# Altium schematic symbol library Connector Symbols.SchLib: 86 symbols
Pins are listed as number, name and electrical type; pins without a type are passive.

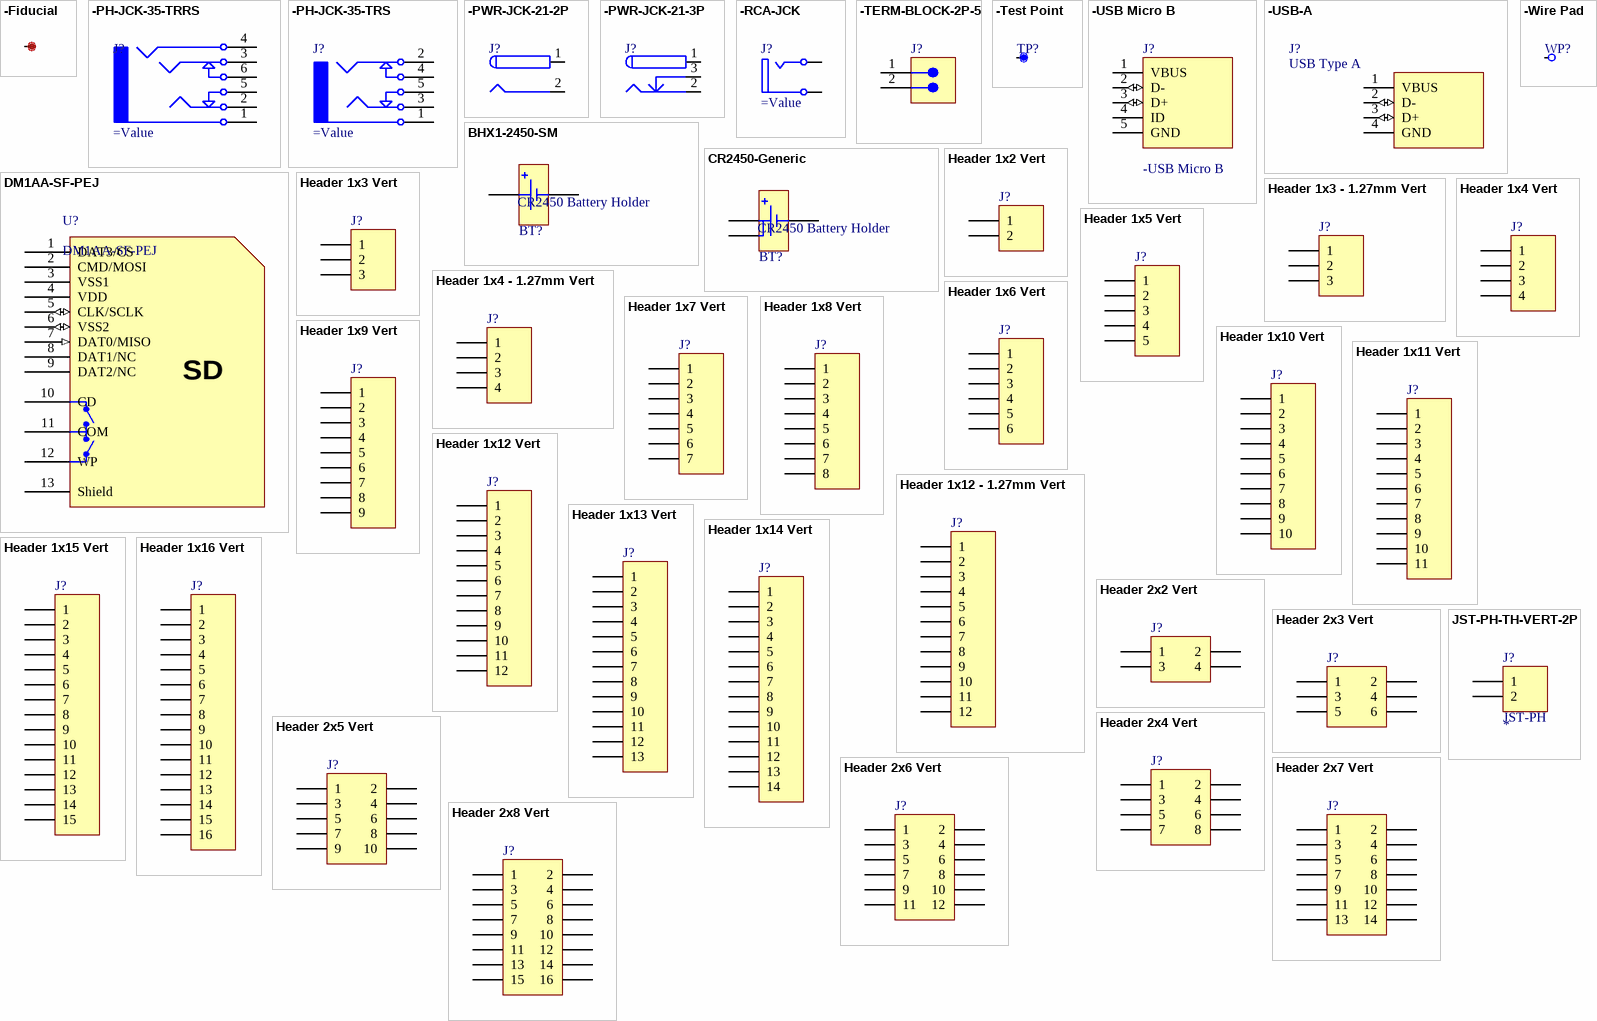
[diagram p0: symbols -Fiducial to JST-PH-TH-VERT-2P]

## -Fiducial
designator ?, comment Fiducial  (value not drawn)
Test Point, SMD Pad
footprint FIDUCIAL_1 (Fiducial Mark, Diameter: 1mm, Keepout: 2mm)
pins: 0

## -PH-JCK-35-TRRS
designator J?
3.5mm TRRS Phone Jack With Switches
pins: 1, 2, 3, 4, 5, 6

## -PH-JCK-35-TRS
designator J?
3.5mm TRS Phone Jack With Switches
pins: 1, 2, 3, 4, 5

## -PWR-JCK-21-2P
designator J?
DC Power Supply Connector, 2 Pin
pins: 1 (power), 2 (power)

## -PWR-JCK-21-3P
designator J?
DC Power Supply Connector, 3 Pin
pins: 1 (power), 2 (power), 3 (power)

## -RCA-JCK
designator J?
RCA Phono Jack
pins: 1 Tip, 2 Sleeve

## -TERM-BLOCK-2P-5
designator J?
Screw Terminal, 2 Pin, 5 mm Pitch, Through Hole
footprint TERM-BLOCK-5.0-2P (Screw Terminal Block, 2-Leads, Pitch 5mm, 90 Degree Angle, Through-Hole)
pins: 1, 2

## -Test Point
designator TP?, comment Test Point  (value not drawn)
Test Point, SMD Pad
footprint TESTPOINT-06 (Test Point; SMD Pad; 0.6mm)
footprint TESTPOINT-09 (Test Point; SMD Pad; 0.9mm)
pins: 1

## -USB Micro B
designator J?
Female Micro USB Type B
pins: 1 VBUS (power), 2 D- (io), 3 D+ (io), 4 ID, 5 GND (power)

## -USB-A
designator J?, comment USB Type A
Female USB Type A Connector
pins: 1 VBUS (power), 2 D- (io), 3 D+ (io), 4 GND (power)

## -Wire Pad
designator WP?, comment Wire Pad  (value not drawn)
Wire Pad, 1 Pin, Through Hole, Vertical
footprint WIREPAD-09-15 (Connector; Through Hole Pad; 0.9mm Inner, 1.5mm Outer)
footprint WIREPAD-22-32 (Connector; Through Hole Pad; 2.2mm Inner, 3.2mm Outer)
pins: 1

## BHX1-2450-SM
designator BT?, comment CR2450 Battery Holder
CR2450 SMD Battery Holder; Value: BHX1-2450-SM
footprint BHX1-2450-SM (MPD CR2450 Battery Holder with Plastic Insert)
pins: 1 -, 2 +, 3 + hidden

## CR2450-Generic
designator BT?, comment CR2450 Battery Holder
CR2450 SMD Battery Holder
footprint BATHLD-CR2450 (Generic CR2450 Battery Holder)
pins: 1 -, 2 +, 3 +

## DM1AA-SF-PEJ
designator U?
SD Card Holder, Hirose; Value: DM1AA-SF-PEJ
footprint DM1AA-SF-PEJ (SD Card Holder Hirose)
pins: 1 DAT3/CS, 2 CMD/MOSI, 3 VSS1, 4 VDD (power), 5 CLK/SCLK (io), 6 VSS2 (io), 7 DAT0/MISO (in), 8 DAT1/NC (power), 9 DAT2/NC, 10 CD "Card Detect Switch. Closed when inserted.", 11 COM "Common for Card Detect and Write Protect.", 12 WP "Write Protect Switch. Closed when write enabled.", 13 Shield
text: SD

## Header 1x2 Vert
designator J?  (value not drawn)
Header, 2 Pin, 2.54mm Pitch, Vertical
footprint HDR1X2 VERT (Connector; Header; 2 Position)
pins: 1, 2

## Header 1x3 - 1.27mm Vert
designator J?, comment Header 1x3 1.27mm  (value not drawn)
Header, 3 Pin, 1.27mm Pitch, Vertical; Value: Header 1x3 1.27mm
footprint HDR1X3-127MM VERT - L (Connector; Header; 3 Position; 1.27mm Pitch;Vertical Mount)
pins: 1, 2, 3

## Header 1x3 Vert
designator J?  (value not drawn)
Header, 3 Pin, 2.54mm Pitch, Vertical
footprint HDR1X3 VERT (Connector; Header; 3 Position; Vertical Mount)
footprint HDR1X3 VERT - S (Connector; Header; 3 Position; Vertical; Staggered)
pins: 1, 2, 3

## Header 1x4 - 1.27mm Vert
designator J?, comment Header 1x4 1.27mm  (value not drawn)
Header, 4 Pin, 1.27mm Pitch, Vertical; Value: Header 1x4 1.27mm
footprint HDR1X4-127MM VERT - L (Connector; Header; 4 Position; 1.27mm Pitch;Vertical Mount)
pins: 1, 2, 3, 4

## Header 1x4 Vert
designator J?  (value not drawn)
Header, 4 Pin, 2.54mm Pitch, Vertical
footprint HDR1X4 VERT (Connector; Header; 4 Position; Vertical Mount)
footprint HDR1X4 VERT - S (Connector; Header; 4 Position; Vertical Mount)
footprint HDR1X4 VERT - SL (Connector; Header; 4 Position; Vertical; Staggered; Long)
footprint HDR1X4 VERT - L (Connector; Header; 4 Position; Vertical Mount)
pins: 1, 2, 3, 4

## Header 1x5 Vert
designator J?  (value not drawn)
Header, 5 Pin, 2.54mm Pitch, Vertical
footprint HDR1X5 VERT (Connector; Header; 5 Position; Vertical Mount)
footprint HDR1X5 VERT - S (Connector; Header; 5 Position; Vertical Mount)
footprint HDR1X5 VERT - L (Connector; Header; 5 Position; Vertical Mount)
footprint HDR1X5 VERT - SL (Connector; Header; 5 Position; Vertical Mount)
pins: 1, 2, 3, 4, 5

## Header 1x6 Vert
designator J?  (value not drawn)
Header, 6 Pin, 2.54mm Pitch, Vertical
footprint HDR1X6 VERT (Connector; Header; 6 Position; Vertical Mount)
footprint HDR1X6 VERT - S (Connector; Header; 6 Position; Vertical Mount)
pins: 1, 2, 3, 4, 5, 6

## Header 1x7 Vert
designator J?  (value not drawn)
Header, 7 Pin, 2.54mm Pitch, Vertical
footprint HDR1X7 VERT (Connector; Header; 7 Position; Vertical Mount)
footprint HDR1X7 VERT - S (Connector; Header; 7 Position; Vertical Mount)
footprint HDR1X7 VERT - SL (Connector; Header; 7 Position; Vertical Mount)
footprint HDR1X7 VERT - L (Connector; Header; 7 Position; Vertical Mount)
pins: 1, 2, 3, 4, 5, 6, 7

## Header 1x8 Vert
designator J?  (value not drawn)
Header, 8 Pin, 2.54mm Pitch, Vertical
footprint HDR1X8 VERT (Connector; Header; 8 Position; Vertical Mount)
footprint HDR1X8 VERT - S (Connector; Header; 8 Position; Vertical Mount)
pins: 1, 2, 3, 4, 5, 6, 7, 8

## Header 1x9 Vert
designator J?  (value not drawn)
Header, 9 Pin, 2.54mm Pitch, Vertical
footprint HDR1X9 VERT (Connector; Header; 9 Position; Vertical Mount)
footprint HDR1X9 VERT - S (Connector; Header; 9 Position; Vertical Mount)
pins: 1, 2, 3, 4, 5, 6, 7, 8, 9

## Header 1x10 Vert
designator J?  (value not drawn)
Header, 10 Pin, 2.54mm Pitch, Vertical
footprint HDR1X10 VERT (Connector; Header; 10 Position; Vertical Mount)
footprint HDR1X10 VERT - S (Connector; Header; 10 Position; Vertical Mount)
pins: 1, 2, 3, 4, 5, 6, 7, 8, 9, 10

## Header 1x11 Vert
designator J?  (value not drawn)
Header, 11 Pin, 2.54mm Pitch, Vertical
footprint HDR1X11 VERT (Connector; Header; 11 Position; Vertical Mount)
footprint HDR1X11 VERT - S (Connector; Header; 11 Position; Vertical Mount)
pins: 1, 2, 3, 4, 5, 6, 7, 8, 9, 10, 11

## Header 1x12 - 1.27mm Vert
designator J?, comment Header 1x12 1.27mm  (value not drawn)
Header, 12 Pin, 1.27mm Pitch, Vertical; Value: Header 1x12 1.27mm
footprint HDR1X12-127MM VERT - L (Connector; Header; 12 Position; 1.27mm Pitch;Vertical Mount)
pins: 1, 2, 3, 4, 5, 6, 7, 8, 9, 10, 11, 12

## Header 1x12 Vert
designator J?  (value not drawn)
Header, 12 Pin, 2.54mm Pitch, Vertical
footprint HDR1X12 VERT (Connector; Header; 12 Position; Vertical Mount)
footprint HDR1X12 VERT - S (Connector; Header; 12 Position; Vertical Mount)
pins: 1, 2, 3, 4, 5, 6, 7, 8, 9, 10, 11, 12

## Header 1x13 Vert
designator J?  (value not drawn)
Header, 13 Pin, 2.54mm Pitch, Vertical
footprint HDR1X13 VERT (Connector; Header; 13 Position; Vertical Mount)
footprint HDR1X13 VERT - S (Connector; Header; 13 Position; Vertical Mount)
pins: 1, 2, 3, 4, 5, 6, 7, 8, 9, 10, 11, 12, 13

## Header 1x14 Vert
designator J?  (value not drawn)
Header, 14 Pin, 2.54mm Pitch, Vertical
footprint HDR1X14 VERT (Connector; Header; 14 Position; Vertical Mount)
footprint HDR1X14 VERT - S (Connector; Header; 14 Position; Vertical Mount)
pins: 1, 2, 3, 4, 5, 6, 7, 8, 9, 10, 11, 12, 13, 14

## Header 1x15 Vert
designator J?  (value not drawn)
Header, 15 Pin, 2.54mm Pitch, Vertical
footprint HDR1X15 VERT (Connector; Header; 15 Position; Vertical Mount)
footprint HDR1X15 VERT - S (Connector; Header; 15 Position; Vertical Mount)
pins: 1, 2, 3, 4, 5, 6, 7, 8, 9, 10, 11, 12, 13, 14, 15

## Header 1x16 Vert
designator J?  (value not drawn)
Header, 16 Pin, 2.54mm Pitch, Vertical
footprint HDR1X16 VERT (Connector; Header; 16 Position; Vertical Mount)
footprint HDR1X16 VERT - S (Connector; Header; 16 Position; Vertical Mount)
pins: 1, 2, 3, 4, 5, 6, 7, 8, 9, 10, 11, 12, 13, 14, 15, 16

## Header 2x2 Vert
designator J?  (value not drawn)
Header, 2x2 Pin, 2.54mm Pitch, Vertical
footprint HDR2X2 VERT (Connector; Header; 2x2 Position, Vertical Mount)
pins: 1, 2, 3, 4

## Header 2x3 Vert
designator J?  (value not drawn)
Header, 2x3 Pin, 2.54mm Pitch, Vertical
footprint HDR2X3 VERT (Connector; Header; 2x3 Position, Vertical Mount)
pins: 1, 2, 3, 4, 5, 6

## Header 2x4 Vert
designator J?  (value not drawn)
Header, 2x4 Pin, 2.54mm Pitch, Vertical
footprint HDR2X4 VERT (Connector; Header; 2x4 Position, Vertical Mount)
pins: 1, 2, 3, 4, 5, 6, 7, 8

## Header 2x5 Vert
designator J?  (value not drawn)
Header, 2x5 Pin, 2.54mm Pitch, Vertical
footprint HDR2X5 VERT (Connector; Header; 2x5 Position, Vertical Mount)
pins: 1, 2, 3, 4, 5, 6, 7, 8, 9, 10

## Header 2x6 Vert
designator J?  (value not drawn)
Header, 2x6 Pin, 2.54mm Pitch, Vertical
footprint HDR2X6 VERT (Connector; Header; 2x6 Position, Vertical Mount)
pins: 1, 2, 3, 4, 5, 6, 7, 8, 9, 10, 11, 12

## Header 2x7 Vert
designator J?  (value not drawn)
Header, 2x7 Pin, 2.54mm Pitch, Vertical
footprint HDR2X7 VERT (Connector; Header; 2x7 Position, Vertical Mount)
pins: 1, 2, 3, 4, 5, 6, 7, 8, 9, 10, 11, 12, 13, 14

## Header 2x8 Vert
designator J?  (value not drawn)
Header, 2x8 Pin, 2.54mm Pitch, Vertical
footprint HDR2X8 VERT (Connector; Header; 2x8 Position, Vertical Mount)
pins: 1, 2, 3, 4, 5, 6, 7, 8, 9, 10, 11, 12, 13, 14, 15, 16

## JST-PH-TH-VERT-2P
designator J?, comment JST-PH
JST-PH Header, 2 Pin, 2mm Pitch, Vertical; MatingPart: PHR-2; Value: B2B-PH-K; Supplier 1: Digi-Key; Supplier Part Number 1: 455-1704-ND; Label: *
footprint JST-PH-2P VERT (JST-PH Header; 2mm Pitch, 2 Position, Vertical Mount)
pins: 1, 2

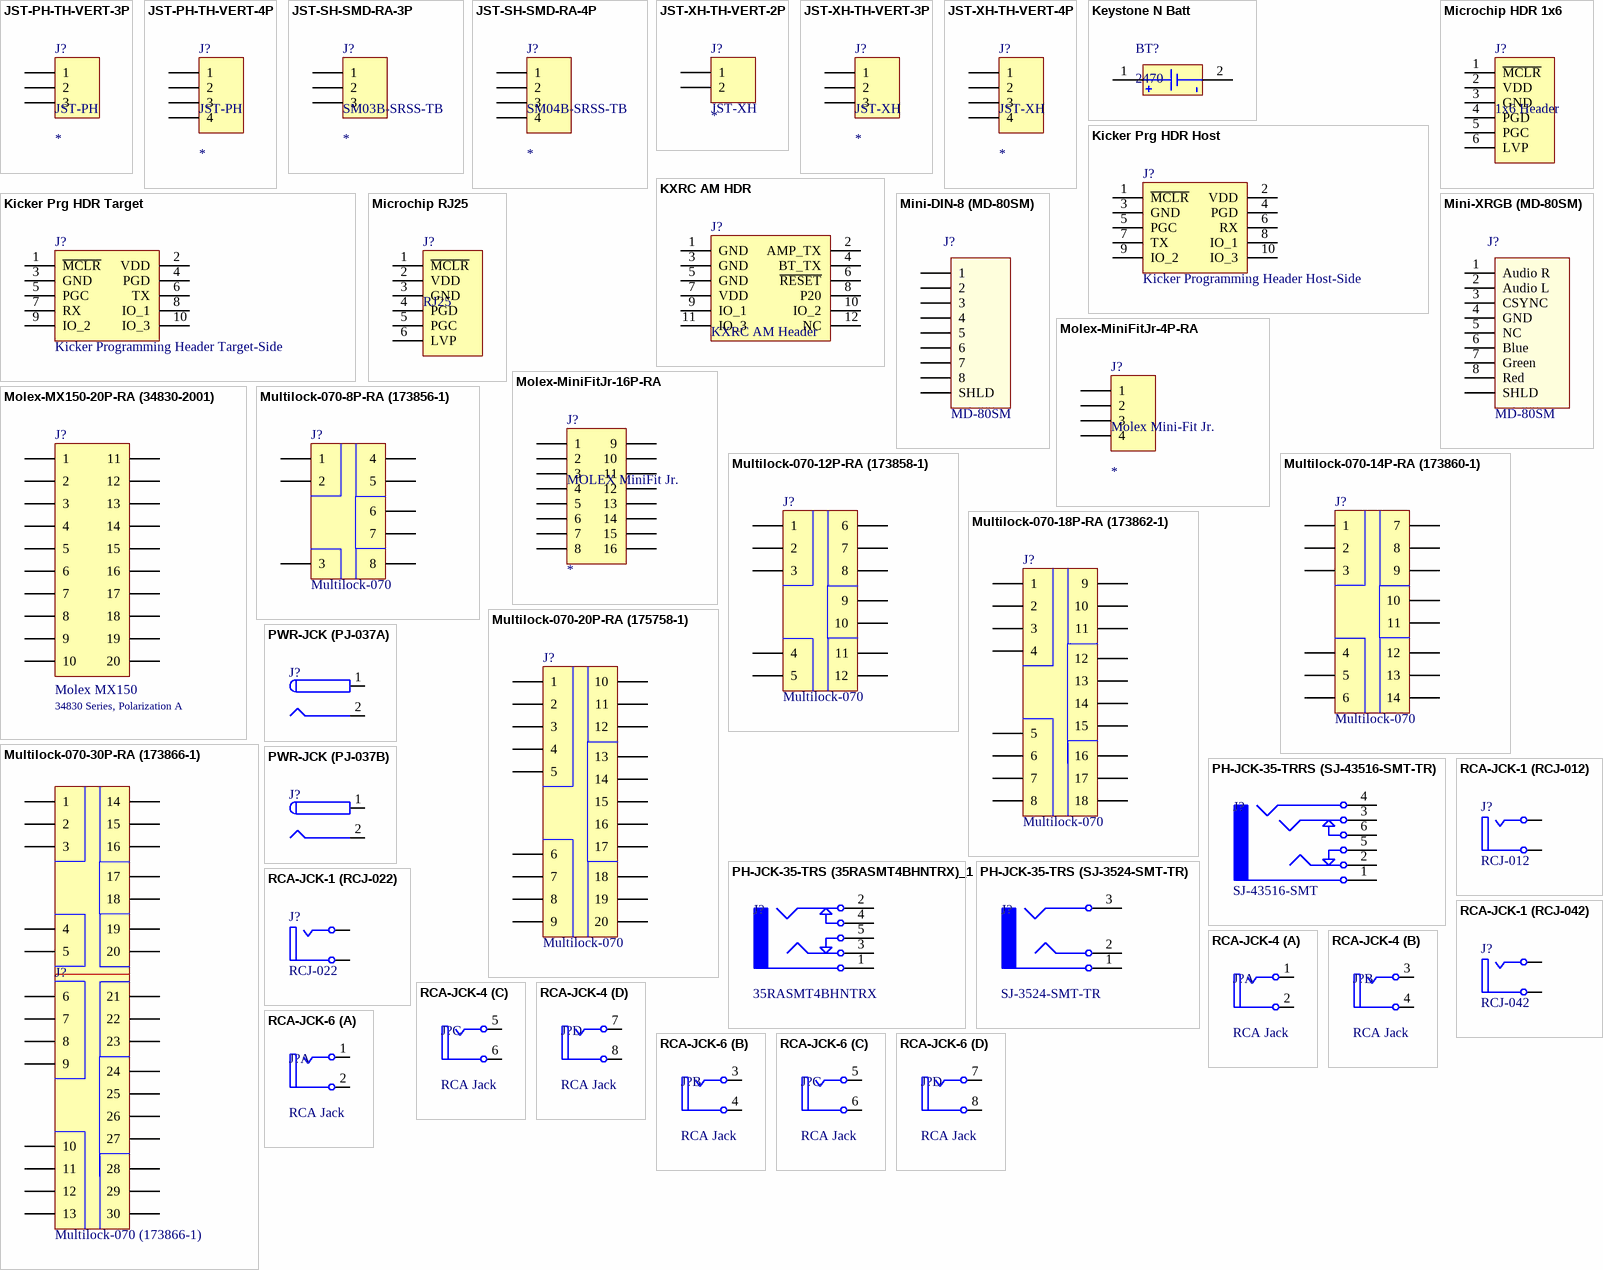
[diagram p1: symbols JST-PH-TH-VERT-3P to RCA-JCK-6]

## JST-PH-TH-VERT-3P
designator J?, comment JST-PH
JST-PH Header, 3 Pin, 2mm Pitch, Vertical; MatingPart: PHR-3; Value: B3B-PH-K; Supplier 1: Digi-Key; Supplier Part Number 1: 455-1705-ND; Label: *
footprint JST-PH-3P VERT (JST-PH Header; 2mm Pitch, 3 Position, Vertical Mount)
pins: 1, 2, 3

## JST-PH-TH-VERT-4P
designator J?, comment JST-PH
JST-XH Header, 4 Pin, 2mm Pitch, Vertical; MatingPart: PHR-4; Value: B4B-PH-K; Supplier 1: Digi-Key; Supplier Part Number 1: 455-1279-ND; Label: *
footprint JST-PH-4P VERT (JST-PH Header; 2mm Pitch, 4 Position, Vertical Mount)
pins: 1, 2, 3, 4

## JST-SH-SMD-RA-3P
designator J?, comment SM03B-SRSS-TB
JST-SH Header, 1mm Pitch, SMD, Right Angle, 3 Position; MatingPart: PHR-3; Value: SM03B-SRSS-TB; Supplier 1: Digikey; Supplier Part Number 1: 455-SM03B-SRSS-TBCT-ND; Label: *
footprint JST-SH-SMD-RA-3P (JST-SH Header; 1mm Pitch, SMD, Right Angle, 3 Position, SM03B-SRSS-TB)
pins: 1, 2, 3

## JST-SH-SMD-RA-4P
designator J?, comment SM04B-SRSS-TB
JST-SH Header; 1mm Pitch, SMD, Right Angle, 4 Position; Value: SM04B-SRSS-TB; Supplier 1: Digikey; Supplier Part Number 1: 455-SM04B-SRSS-TBCT-ND; Label: *
footprint JST-SH-SMD-RA-4P (JST-SH Header; 1mm Pitch, SMD, Right Angle, 3 Position, SM04B-SRSS-TB)
pins: 1, 2, 3, 4

## JST-XH-TH-VERT-2P
designator J?, comment JST-XH
JST-XH Header, 2 Pin, 2.5mm Pitch, Vertical; MatingPart: XHP-2; Value: B2B-XH-A; Supplier 1: Digi-Key; Supplier Part Number 1: 455-2247-ND; Label: *
footprint JST-XH-2P VERT (JST-XH Header; 2.5mm Pitch, 2 Position, Vertical Mount)
pins: 1, 2

## JST-XH-TH-VERT-3P
designator J?, comment JST-XH
JST-XH Header, 3 Pin, 2.5mm Pitch, Vertical; MatingPart: XHP-3; Value: B3B-XH-A; Supplier 1: Digi-Key; Supplier Part Number 1: 455-2248-ND; Label: *
footprint JST-XH-3P VERT (JST-XH Header; 2.5mm Pitch, 3 Position, Vertical Mount)
pins: 1, 2, 3

## JST-XH-TH-VERT-4P
designator J?, comment JST-XH
JST-XH Header, 4 Pin, 2.5mm Pitch, Vertical; MatingPart: XHP-4; Value: B4B-XH-A; Supplier 1: Digi-Key; Supplier Part Number 1: 455-2237-ND; Label: *
footprint JST-XH-4P VERT (JST-XH Header; 2.5mm Pitch, 4 Position, Vertical Mount)
pins: 1, 2, 3, 4

## Keystone N Batt
designator BT?, comment 2470
N Size Battery Holder, Through Hole; Value: 2470; Supplier 1: Mouser; Supplier Part Number 1: 534-2470
footprint BTHLD-N-A1K2 (PN2470) (Battery Holder, N size, Through Hole, Keystone 2470)
pins: 1, 2

## Kicker Prg HDR Host
designator J?, comment Kicker Programming Header Host-Side
Kicker Programming Header, Host-Side, 2x5 Pin, 2.54mm Pitch
footprint HDR2X5 VERT (Connector; Header; 2x5 Position, Vertical Mount)
pins: 1 ~{MCLR}, 2 VDD, 3 GND, 4 PGD, 5 PGC, 6 RX, 7 TX, 8 IO_1, 9 IO_2, 10 IO_3

## Kicker Prg HDR Target
designator J?, comment Kicker Programming Header Target-Side
Kicker Programming Header, Target-Side, 2x5 Pin, 2.54mm Pitch
footprint TC2050-IDC-NL (Tag-Connect 10-Pin Header no Legs)
footprint TC2050-IDC (Tag-Connect 10-Pin Header with Legs)
footprint HDR2X5 VERT (Connector; Header; 2x5 Position, Vertical Mount)
pins: 1 ~{MCLR}, 2 VDD, 3 GND, 4 PGD, 5 PGC, 6 TX, 7 RX, 8 IO_1, 9 IO_2, 10 IO_3

## KXRC AM HDR
designator J?, comment KXRC AM Header
KXRC AM Header, 2x6 Pin, 2.54mm Pitch
footprint HDR2X6 VERT (Connector; Header; 2x6 Position, Vertical Mount)
pins: 1 GND, 2 AMP_TX, 3 GND, 4 BT_TX, 5 GND, 6 ~{RESET}, 7 VDD, 8 P20, 9 IO_1, 10 IO_2, 11 IO_3, 12 NC

## Microchip HDR 1x6
designator J?, comment 1x6 Header
Microchip Programming Header, 6 Pin; Value: *
footprint HDR1X6 VERT (Connector; Header; 6 Position; Vertical Mount)
pins: 1 ~{MCLR}, 2 VDD (power), 3 GND (power), 4 PGD, 5 PGC, 6 LVP

## Microchip RJ25
designator J?, comment RJ25
Microchip Programming Header, RJ25; Value: RJ25; Supplier 1: Mouser; Supplier Part Number 1: 571-5555165-1
footprint RJ25 (5555165-1) (RJ25 Modular Jack; TE Connectivity; 6 Position; Horizontal Mount)
pins: 1 ~{MCLR}, 2 VDD (power), 3 GND (power), 4 PGD, 5 PGC, 6 LVP

## Mini-DIN-8 (MD-80SM)
designator J?, comment MD-80SM
8 Pin Mini DIN Connector, Shielded, Through Hole, Right Angle; Label: *; Supplier 1: Mouser; Supplier Part Number 1: 490-MD-80SM; Value: MD-80SM
footprint MINI-DIN-8 (MD-80SM) (CUI Inc, Mini Din Connector, Through Hole, Right Angle)
footprint MINI-DIN-8-ALT (MD-80SM) (CUI Inc, Mini Din Connector, Through Hole, Right Angle)
pins: 1, 2, 3, 4, 5, 6, 7, 8, SHLD

## Mini-XRGB (MD-80SM)
designator J?, comment MD-80SM
8 Pin Mini DIN Connector, Shielded, Through Hole, Right Angle; Label: *; Supplier 1: Mouser; Supplier Part Number 1: 490-MD-80SM; Value: MD-80SM
footprint MINI-DIN-8 (MD-80SM) (CUI Inc, Mini Din Connector, Through Hole, Right Angle)
footprint MINI-DIN-8-ALT (MD-80SM) (CUI Inc, Mini Din Connector, Through Hole, Right Angle)
pins: 1 Audio R, 2 Audio L, 3 CSYNC, 4 GND, 5 NC, 6 Blue, 7 Green, 8 Red, SHLD

## Molex-MiniFitJr-4P-RA
designator J?, comment Molex Mini-Fit Jr.
Molex Mini-Fit Jr, 4 Pin, 4.20mm Pitch, Right Angle; Value: 0353180420; Supplier 1: Mouser; Supplier Part Number 1: 538-35318-0420; Label: *
footprint MOLEX-MINIFITJR-4P HORZ (Connector Header Through Hole, Right Angle, 4 position, 4.20mm)
pins: 1, 2, 3, 4

## Molex-MiniFitJr-16P-RA
designator J?, comment MOLEX MiniFit Jr.
Molex MiniFit Jr, 16 Pin, 4.20mm Pitch, Right Angle; Supplier 1: Digi-Key; Supplier Part Number 1: WM4454-ND; Label: *
footprint MOLEX-MINIFITJR-16P HORZ (Connector Header Through Hole, Right Angle, 16 position, 4.20mm)
pins: 1, 2, 3, 4, 5, 6, 7, 8, 9, 10, 11, 12, 13, 14, 15, 16

## Molex-MX150-20P-RA (34830-2001)
designator J?, comment Label: 34830 Series, Polarization A  (hidden comment: Molex MX150)
Molex MX150, 20 Pin, 3.5mm Pitch, Right Angle, Polorization A; Manufacturer 1: Molex; Value: Molex MX150
footprint Molex-MX150-20P-RA (34830-2001) (Molex MX150, 20 Pin, 3.5mm Pitch, Right Angle Mount)
pins: 1, 2, 3, 4, 5, 6, 7, 8, 9, 10, 11, 12, 13, 14, 15, 16, 17, 18, 19, 20

## Multilock-070-8P-RA (173856-1)
designator J?, comment Multilock-070
Multilock 070, 8 Pin, 3.5mm Pitch, Right Angle; Manufacturer 1: TE Connectivity; Value: Multilock-070
footprint Multilock-070-8P-RA (173856-1) (Multilock 070, 8 Pin, 3.5mm Pitch, Right Angle Mount)
pins: 1, 2, 3, 4, 5, 6, 7, 8

## Multilock-070-12P-RA (173858-1)
designator J?, comment Multilock-070
Multilock 070, 12 Pin, 3.5mm Pitch, Right Angle; Manufacturer 1: TE Connectivity; Value: Multilock-070
footprint Multilock-070-12P-RA (173858-1) (Multilock 070, 12 Pin, 3.5mm Pitch, Right Angle Mount)
pins: 1, 2, 3, 4, 5, 6, 7, 8, 9, 10, 11, 12

## Multilock-070-14P-RA (173860-1)
designator J?, comment Multilock-070
Multilock 070, 14 Pin, 3.5mm Pitch, Right Angle; Manufacturer 1: TE Connectivity; Value: Multilock-070
footprint Multilock-070-14P-RA (173860-1) (Multilock 070, 14 Pin, 3.5mm Pitch, Right Angle Mount)
pins: 1, 2, 3, 4, 5, 6, 7, 8, 9, 10, 11, 12, 13, 14

## Multilock-070-18P-RA (173862-1)
designator J?, comment Multilock-070
Multilock 070, 18 Pin, 3.5mm Pitch, Right Angle; Manufacturer 1: TE Connectivity; Value: Multilock-070
footprint Multilock-070-18P-RA (173862-1) (Multilock 070, 18 Pin, 3.5mm Pitch, Right Angle Mount)
pins: 1, 2, 3, 4, 5, 6, 7, 8, 9, 10, 11, 12, 13, 14, 15, 16, 17, 18

## Multilock-070-20P-RA (175758-1)
designator J?, comment Multilock-070
Multilock 070, 20 Pin, 3.5mm Pitch, Right Angle; Manufacturer 1: TE Connectivity; Value: Multilock-070
footprint Multilock-070-20P-RA (175785-1) (Multilock 070, 20 Pin, 3.5mm Pitch, Right Angle Mount)
pins: 1, 2, 3, 4, 5, 6, 7, 8, 9, 10, 11, 12, 13, 14, 15, 16, 17, 18, 19, 20

## Multilock-070-30P-RA (173866-1)
designator J?, comment Multilock-070 (173866-1)
Multilock 070, 30 Pin, 3.5mm Pitch, Right Angle; Manufacturer 1: TE Connectivity; Value: Multilock-070 (173866-1)
footprint Multilock-070-30P-RA (173866-1 ) (Multilock 070, 30 Pin, 3.5mm Pitch, Right Angle Mount)
pins: 1, 2, 3, 4, 5, 6, 7, 8, 9, 10, 11, 12, 13, 14, 15, 16, 17, 18, 19, 20, 21, 22, 23, 24, 25, 26, 27, 28, 29, 30

## PH-JCK-35-TRRS (SJ-43516-SMT-TR)
designator J?, comment SJ-43516-SMT
3.5mm TRRS Phone Jack With Switches; Value: SJ-43516-SMT; Supplier 1: Digi-Key; Supplier Part Number 1: CP-43516SJCT-ND
footprint PH-JCK-35 (SJ-4351X-SMT) (CONN AUDIO JACK 3.5MM 4COND SMD)
pins: 1, 2, 3, 4, 5, 6

## PH-JCK-35-TRS (35RASMT4BHNTRX)_1
designator J?, comment 35RASMT4BHNTRX
3.5mm TRS Phone Jack With Switches; Value: 35RASMT4BHNTRX; Supplier 1: Digi-Key; Supplier Part Number 1: SC1488-1-ND
footprint PH-JCK-35 (35RASMT4BHNTRX) (3.5mm TRS Jack, 5-Leads, Body 17x6mm)
pins: 1, 2, 3, 4, 5

## PH-JCK-35-TRS (SJ-3524-SMT-TR)
designator J?, comment SJ-3524-SMT-TR
3.5mm TRS Phone Jack; Value: SJ-3524-SMT-TR; Supplier 1: Digi-Key; Supplier Part Number 1: CP-3524SJCT-ND
footprint PH-JCK-35 (SJ-352X-SMT) (CONN AUDIO JACK 3.5MM 4COND SMD)
pins: 1 Shield, 2 Tip, 3 Ring

## PWR-JCK (PJ-037A)
designator J?, comment PJ-037A  (value not drawn)
2.1mm ID, DC Power Supply Connector, 2 Pin; Value: PJ-037A; Supplier 1: Mouser; Supplier Part Number 1: 490-PJ-037A
footprint PWR-JCK (PJ-037A/B) (DC Power Jack; 2.1mm ID, 6.5mm OD; No Switch)
footprint PWR-JCK-ALT (PJ-037A/B) (Alternate DC Power Jack with Round Holes; 2.1mm ID, 6.5mm OD; No Switch;)
pins: 1 (power), 2 (power)

## PWR-JCK (PJ-037B)
designator J?, comment PJ-037B  (value not drawn)
2.5mm ID, DC Power Supply Connector, 2 Pin; Value: PJ-037B; Supplier 1: Mouser; Supplier Part Number 1: 490-PJ-037B
footprint PWR-JCK (PJ-037A/B) (DC Power Jack; 2.1mm ID, 6.5mm OD; No Switch)
footprint PWR-JCK-ALT (PJ-037A/B) (Round Holes; DC Power Jack; 2.1mm ID, 6.5mm OD; No Switch;)
pins: 1 (power), 2 (power)

## RCA-JCK-1 (RCJ-012)
designator J?, comment RCJ-012
RCA Phono Jack, Right Angle; Supplier 1: Mouser; Supplier Part Number 1: 490-RCJ-012; Value: RCJ-012
footprint RCA-JCK-1 (RCJ-012) (RCA Phono Jack, Right Angle)
pins: 1 Tip, 2 Sleeve

## RCA-JCK-1 (RCJ-022)
designator J?, comment RCJ-022
RCA Phono Jack, Straight, Vertical; Supplier 1: Mouser; Supplier Part Number 1: 490-RCJ-022; Value: RCJ-022
footprint RCA-JCK-1 VERT (RCJ-022) (RCA Phono Jack, Straight, Vertical)
pins: 1 Tip, 2 Sleeve

## RCA-JCK-1 (RCJ-042)
designator J?, comment RCJ-042
RCA Phono Jack, Right Angle; Value: RCJ-042; Supplier 1: Mouser; Supplier Part Number 1: 490-RCJ-042
footprint RCA-JCK-1 (RCJ-042) (RCA Phono Jack, Right Angle)
footprint RCA-JCK-1 (RCJ-042-ALT1) (RCA Phono Jack, Right Angle)
pins: 1 Tip, 2 Sleeve

## RCA-JCK-4
designator J?, comment RCA Jack
RCA Phono Jack, 2x2 Connectors, Right Angle, Stacked
part A pins: 1 Bot-Tip, 2 Bot-Sleeve
part B pins: 3 Top-Tip, 4 Top-Sleeve
part C pins: 5 Bot-Tip, 6 Bot-Sleeve
part D pins: 7 Top-Tip, 8 Top-Sleeve

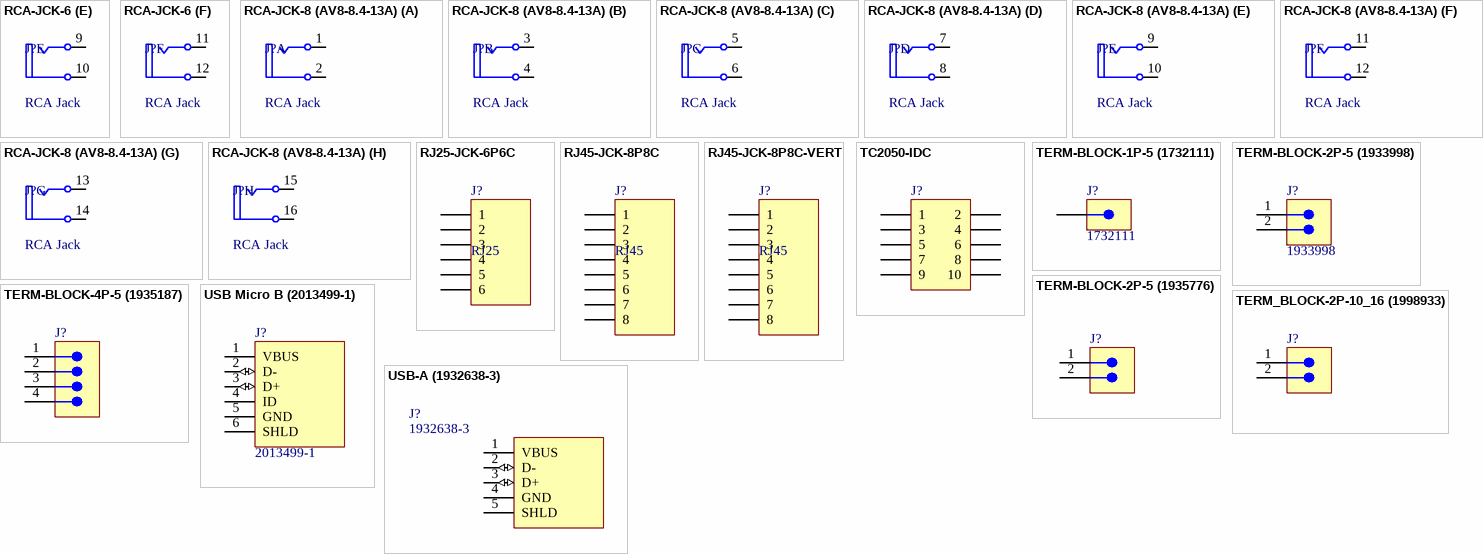
[diagram p2: symbols RCA-JCK-6 to USB-A (1932638-3)]

## RCA-JCK-6
designator J?, comment RCA Jack
RCA Phono Jack, 3x2 Connectors, Right Angle, Stacked
part A pins: 1 Bot-Tip, 2 Bot-Sleeve
part B pins: 3 Top-Tip, 4 Top-Sleeve
part C pins: 5 Bot-Tip, 6 Bot-Sleeve
part D pins: 7 Top-Tip, 8 Top-Sleeve
part E pins: 9 Bot-Tip, 10 Bot-Sleeve
part F pins: 11 Top-Tip, 12 Top-Sleeve

## RCA-JCK-8 (AV8-8.4-13A)
designator J?, comment RCA Jack
RCA Phono Jack, 4x2 Connectors, Right Angle, Stacked
footprint RCA-JCK-8 (AV8-8.4-13A) (RCA Phono Jack, 4x2 Connectors, Right Angle, Stacked)
part A pins: 1 Bot-Tip, 2 Bot-Sleeve
part B pins: 3 Top-Tip, 4 Top-Sleeve
part C pins: 5 Bot-Tip, 6 Bot-Sleeve
part D pins: 7 Top-Tip, 8 Top-Sleeve
part E pins: 9 Bot-Tip, 10 Bot-Sleeve
part F pins: 11 Top-Tip, 12 Top-Sleeve
part G pins: 13 Bot-Tip, 14 Bot-Sleeve
part H pins: 15 Top-Tip, 16 Top-Sleeve

## RJ25-JCK-6P6C
designator J?, comment RJ25
RJ25 Modular Jack, Right Angle; Value: RJ25; Supplier 1: Mouser; Supplier Part Number 1: 571-5555165-1
footprint RJ25 (5555165-1) (RJ25 Modular Jack; TE Connectivity; 6 Position; Horizontal Mount)
pins: 1, 2 (power), 3 (power), 4, 5, 6

## RJ45-JCK-8P8C
designator J?, comment RJ45
RJ45 Modular Jack, Unshielded, Right Angle; Value: RJ45; Supplier 1: Mouser; Supplier Part Number 1: 571-5555164-1
footprint RJ45 (5555164-1) (RJ45 Modular Jack; TE Connectivity; 8 Position; Horizontal Mount)
pins: 1, 2, 3, 4, 5, 6, 7, 8

## RJ45-JCK-8P8C-VERT
designator J?, comment RJ45
RJ45 Modular Jack, Unshielded, Vertical; Value: RJ45; Supplier 1: Mouser; Supplier Part Number 1: 571-5556416-1
footprint RJ45-VERT (5556416-1) (RJ45 Modular Jack; TE Connectivity; 8 Position; Vertical Mount)
pins: 1, 2, 3, 4, 5, 6, 7, 8

## TC2050-IDC
designator J?, comment Tag-Connect  (value not drawn)
Tag-Connect 10-Pin Header
footprint TC2050-IDC (Tag-Connect 10-Pin Header with Legs)
footprint TC2050-IDC-NL (Tag-Connect 10-Pin Header no Legs)
pins: 1, 2, 3, 4, 5, 6, 7, 8, 9, 10

## TERM-BLOCK-1P-5 (1732111)
designator J?, comment 1732111
Terminal, 1 Pin, Spring Cage, 5 mm Pitch, Through Hole; Supplier 1: Mouser; Supplier Part Number 1: 651-1732111; Value: 1732111
footprint TERM-BLOCK-5.0-1P (1732111) (Terminal Block, 1-Lead Modular, Spring Cage, 90 Degree Angle, Through-Hole)
pins: 1

## TERM-BLOCK-2P-5 (1933998)
designator J?, comment 1933998
Terminal, 2 Pin, Spring Cage, 5 mm Pitch, Through Hole; Supplier 1: Mouser; Supplier Part Number 1: 651-1933998; Value: 1933998
footprint TERM-BLOCK-5.0-2P (1933998) (Terminal Block, 2-Leads, Spring Cage, Pitch 5mm, 90 Degree Angle, Through-Hole)
pins: 1, 2

## TERM-BLOCK-2P-5 (1935776)
designator J?
Screw Terminal, 2 Pin, 5 mm Pitch, Through Hole; Supplier 1: Mouser; Supplier Part Number 1: 651-1935776
footprint TERM-BLOCK-5.0-2P (Screw Terminal Block, 2-Leads, Pitch 5mm, 90 Degree Angle, Through-Hole)
pins: 1, 2

## TERM-BLOCK-4P-5 (1935187)
designator J?, comment 1935187  (value not drawn)
Screw Terminal, 4 Pin, 5 mm Pitch, Through Hole; Value: 1935187
pins: 1, 2, 3, 4

## TERM_BLOCK-2P-10_16 (1998933)
designator J?
Pluggable Terminal, 2 Pin, 10.16 mm Pitch, 76A, Through Hole
footprint TERM-BLOCK-10.16-2P (1998933) (Pluggable Terminal, 2-Leads, Pitch 10.16mm, Through-Hole)
pins: 1, 2

## USB Micro B (2013499-1)
designator J?, comment 2013499-1
Female Micro USB Type B; Value: 2013499-1; Supplier 1: Mouser; Supplier Part Number 1: 571-2013499-1
footprint USB-MICRO-B (2013499-1) (USB - micro B USB 2.0 Receptacle Connector 5 Position Surface Mount, Right Angle, Horizontal)
footprint USB-MICRO-B-ALT (2013499-1) (Round Holes; USB - micro B USB 2.0 Receptacle Connector 5 Position Surface Mount, Right Angle, Horizontal)
pins: 1 VBUS (power), 2 D- (io), 3 D+ (io), 4 ID, 5 GND (power), 6 SHLD (power)

## USB-A (1932638-3)
designator J?, comment 1932638-3
Female USB Type A Connector; Value: 1932638-3; Supplier 1: Digi-Key; Supplier Part Number 1: A117902CT-ND
footprint USB-A (1932638-3) (USB - A USB 2.0 Receptacle Connector 4 Position Surface Mount, Right Angle, Horizontal)
footprint USB-A-ALT (1932638-3) (Round Holes; USB - A USB 2.0 Receptacle Connector 4 Position Surface Mount, Right Angle, Horizontal)
pins: 1 VBUS (power), 2 D- (io), 3 D+ (io), 4 GND (power), 5 SHLD (power)